# Altium footprint library 2440_LIB.PcbLib: 50 footprints (part 3 of 4)
Each footprint in its own frame and in the unit in brackets; x right, y up, seen from the top. Pads: shape width x height; smd on the part's side, far side on the other; paste and mask are expansions set on the pad; w line width, h text height; cw(c..) or ccw(c..) is an arc to the next point about the centre after c.
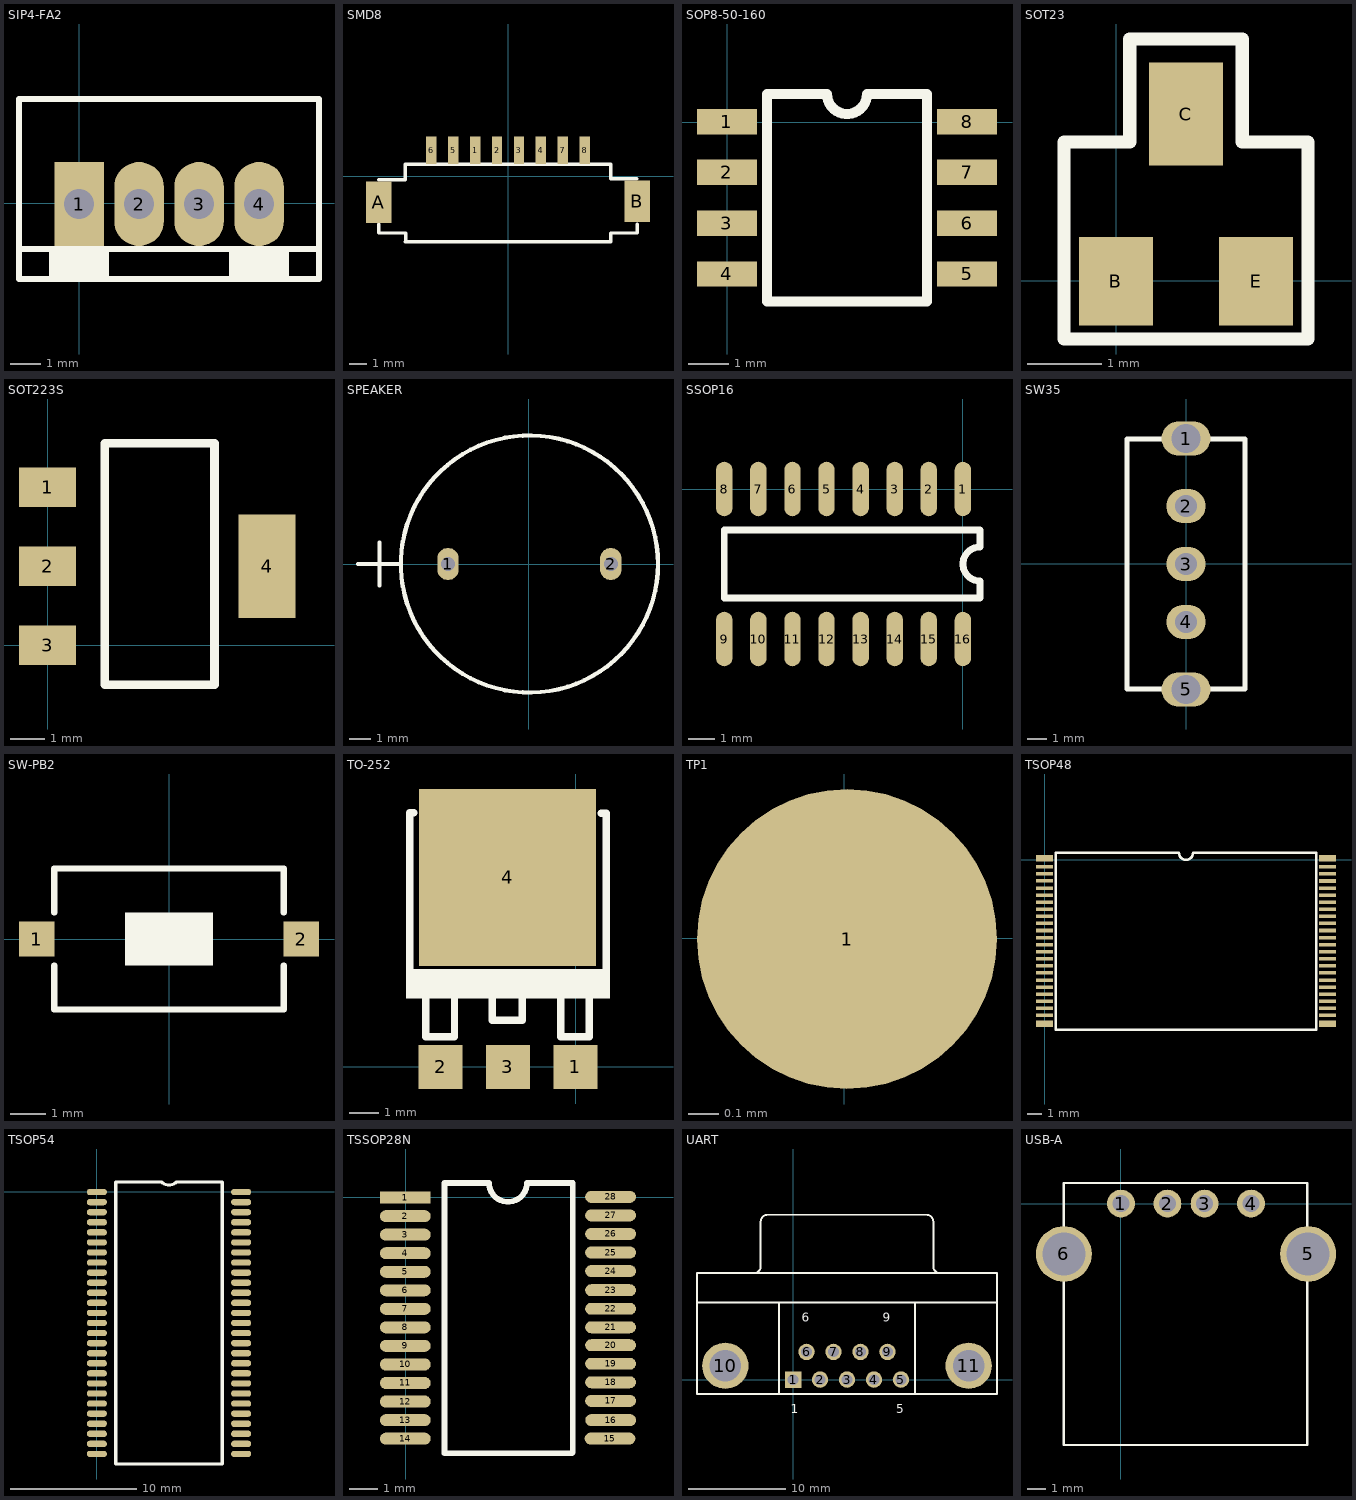
[diagram p2: the footprints below, top view; thin cyan lines are the x and y axes]

## SIP4-FA2 [mm]
pads (4):
  rect 1.651x2.8 hole 1: 1(-0.012,-0.02)
  oval 1.651x2.8 hole 1: 2(1.988,-0.02) 3(3.988,-0.02) 4(5.988,-0.02)
TopOverlay:
  region: 0.988,-1.52 -1.012,-1.52 -1.012,-2.52 0.988,-2.52
  region: 6.981,-1.52 4.981,-1.52 4.981,-2.52 6.981,-2.52
  lines w0.2: -2.012,-1.52 7.981,-1.52 ; -2.012,-2.52 7.981,-2.52 7.981,3.48 -2.012,3.48 -2.012,-2.52

## SMD8 [mm]
pads (10):
  rect 0.6x1.6 smd: 1(-1.914,1.51) 2(-0.644,1.51) 3(0.626,1.51) 4(1.896,1.51) 5(-3.184,1.51) 6(-4.454,1.51) 7(3.166,1.51) 8(4.436,1.51)
  rect 1.5x2.4 smd: A(-7.499,-1.515) B(7.481,-1.44)
TopOverlay:
  lines w0.2: -7.499,-2.79 -7.499,-3.29 -5.924,-3.29 -5.924,-3.79 ; -7.499,-0.215 -5.949,-0.215 -5.949,0.685 5.931,0.685 5.931,-0.14 7.456,-0.14 ; -5.949,-3.79 5.931,-3.79 5.931,-3.29 7.481,-3.29 7.481,-2.79

## SOP8-50-160 [mm]
pads (8):
  rect 1.5x0.635 smd: 1(-0.002,0.012) 2(-0.002,-1.258) 3(-0.002,-2.528) 4(-0.002,-3.798) 5(5.998,-3.798) 6(5.998,-2.528) 7(5.998,-1.258) 8(5.998,0.012)
TopOverlay:
  lines w0.254: 0.998,-4.488 0.998,0.702 2.498,0.702 ccw(c2.998,0.702) 3.498,0.702 4.998,0.702 4.998,-4.488 0.998,-4.488

## SOT23 [mm]
pads (3):
  rect 1x1.2 smd: B(-0.006,-0.008) E(1.894,-0.008)
  rect 1x1.4 smd: C(0.944,2.258)
TopOverlay:
  lines w0.178: -0.707,-0.79 -0.707,1.877 0.182,1.877 0.182,3.274 1.706,3.274 1.706,1.877 2.595,1.877 2.595,-0.79 -0.707,-0.79

## SOT223S [mil]
pads (4):
  rect 65x45 smd: 1(0,180) 2(0,90) 3(0,0)
  rect 65x118 smd: 4(250,90)
TopOverlay:
  lines w10: 65,-45 65,230 190,230 190,-45 65,-45

## SPEAKER [mm]
pads (2):
  oval 1x1.5 hole 0.65: 1(-3.779,0.01) 2(3.821,0.01)
TopOverlay:
  circle w0.2: c0.021,0.01 r6
  lines w0.2: -7.979,0.01 -5.979,0.01 ; -6.979,-0.99 -6.979,1.01

## SSOP16 [mil]
pads (16):
  oval 24x80 smd: 1(0.44,0.31) 2(-49.56,0.31) 3(-99.56,0.31) 4(-149.56,0.31) 5(-199.56,0.31) 6(-249.56,0.31) 7(-299.56,0.31) 8(-349.56,0.31) 9(-349.56,-219.69) 10(-299.56,-219.69) 11(-249.56,-219.69) 12(-199.56,-219.69) 13(-149.56,-219.69) 14(-99.56,-219.69) 15(-49.56,-219.69) 16(0.44,-219.69)
TopOverlay:
  lines w10: -349.56,-159.69 -349.56,-59.69 25.44,-59.69 25.44,-84.69 ccw(c25.44,-109.69) 25.44,-134.69 25.44,-159.69 -349.56,-159.69

## SW35 [mil]
pads (5):
  oval 100x70 hole 60: 1(-0.65,255.25) 5(-0.65,-256.57)
  oval 80x70 hole 45: 2(-0.65,117.45) 3(-0.65,-0.66) 4(-0.65,-118.77)
TopOverlay:
  lines w10: -120.65,-255.66 119.35,-255.66 119.35,254.34 -120.65,254.34 -120.65,-255.66

## SW-PB2 [mm]
pads (2):
  rect 1x1 smd: 1(-3.753,0.001) 2(3.747,0.001)
TopOverlay:
  rectangle: -1.253,-0.749 1.247,0.751
  lines w0.178: -3.253,-0.749 -3.253,-1.999 3.247,-1.999 3.247,-0.749 ; -3.253,0.751 -3.253,2.001 3.247,2.001 3.247,0.751

## TO-252 [mm]
pads (4):
  rect 1.5x1.5 smd: 1(-0.011,-0.009) 2(-4.583,-0.009) 3(-2.297,-0.009)
  rect 6x6 smd: 4(-2.311,6.416)
TopOverlay:
  rectangle: -5.759,2.315 1.166,3.315
  lines w0.254: -5.636,3.141 -5.636,8.616 ; -5.611,8.616 -5.486,8.616 ; -5.086,2.266 -5.086,1.016 -4.111,1.016 -4.111,2.291 ; -2.836,2.266 -2.836,1.566 -1.811,1.566 -1.811,2.366 ; -0.511,2.266 -0.511,1.016 0.464,1.016 ; 0.464,2.291 0.464,1.016 ; 0.864,8.591 1.014,8.591 ; 1.039,3.166 1.039,8.591 ; 0.464,1.016 0.464,1.016

## TP1 [mm]
pads (1):
  round 1 smd: 1(0.009,-0.003)

## TSOP48 [mm]
pads (48):
  rect 1.2x0.45 smd: 1(-0.012,0.103) 24(-0.012,-11.597) 25(19.988,-11.597) 48(19.988,0.103)
  rect 1.2x0.25 smd: 2(-0.012,-0.497) 3(-0.012,-0.997) 4(-0.012,-1.497) 5(-0.012,-1.997) 6(-0.012,-2.497) 7(-0.012,-2.997) 8(-0.012,-3.497) 9(-0.012,-3.997) 10(-0.012,-4.497) 11(-0.012,-4.997) 12(-0.012,-5.497) 13(-0.012,-5.997) 14(-0.012,-6.497) 15(-0.012,-6.997) 16(-0.012,-7.497) 17(-0.012,-7.997) 18(-0.012,-8.497) 19(-0.012,-8.997) 20(-0.012,-9.497) 21(-0.012,-9.997) 22(-0.012,-10.497) 23(-0.012,-10.997) 26(19.988,-10.997) 27(19.988,-10.497) 28(19.988,-9.997) 29(19.988,-9.497) 30(19.988,-8.997) 31(19.988,-8.497) 32(19.988,-7.997) 33(19.988,-7.497) 34(19.988,-6.997) 35(19.988,-6.497) 36(19.988,-5.997) 37(19.988,-5.497) 38(19.988,-4.997) 39(19.988,-4.497) 40(19.988,-3.997) 41(19.988,-3.497) 42(19.988,-2.997) 43(19.988,-2.497) 44(19.988,-1.997) 45(19.988,-1.497) 46(19.988,-0.997) 47(19.988,-0.497)
TopOverlay:
  lines w0.178: 0.788,-11.997 0.788,0.503 9.488,0.503 ccw(c9.988,0.503) 10.488,0.503 19.188,0.503 19.188,-11.997 0.788,-11.997

## TSOP54 [mm]
pads (54):
  oval 1.6x0.5 smd: 1(-0.006,-0.005) 2(-0.006,-0.805) 3(-0.006,-1.605) 4(-0.006,-2.405) 5(-0.006,-3.205) 6(-0.006,-4.005) 7(-0.006,-4.805) 8(-0.006,-5.605) 9(-0.006,-6.405) 10(-0.006,-7.205) 11(-0.006,-8.005) 12(-0.006,-8.805) 13(-0.006,-9.605) 14(-0.006,-10.405) 15(-0.006,-11.205) 16(-0.006,-12.005) 17(-0.006,-12.805) 18(-0.006,-13.605) 19(-0.006,-14.405) 20(-0.006,-15.205) 21(-0.006,-16.005) 22(-0.006,-16.805) 23(-0.006,-17.605) 24(-0.006,-18.405) 25(-0.006,-19.205) 26(-0.006,-20.005) 27(-0.006,-20.805) 28(11.454,-20.805) 29(11.454,-20.005) 30(11.454,-19.205) 31(11.454,-18.405) 32(11.454,-17.605) 33(11.454,-16.805) 34(11.454,-16.005) 35(11.454,-15.205) 36(11.454,-14.405) 37(11.454,-13.605) 38(11.454,-12.805) 39(11.454,-12.005) 40(11.454,-11.205) 41(11.454,-10.405) 42(11.454,-9.605) 43(11.454,-8.805) 44(11.454,-8.005) 45(11.454,-7.205) 46(11.454,-6.405) 47(11.454,-5.605) 48(11.454,-4.805) 49(11.454,-4.005) 50(11.454,-3.205) 51(11.454,-2.405) 52(11.454,-1.605) 53(11.454,-0.805) 54(11.454,-0.005)
TopOverlay:
  lines w0.254: 1.494,-21.605 9.954,-21.605 9.954,0.795 6.315,0.795 cw(c5.724,1.386) 5.133,0.795 1.494,0.795 1.494,-21.605

## TSSOP28N [mm]
pads (28):
  rect 1.78x0.42 smd: 1(-0.013,-0.007)
  oval 1.78x0.42 smd: 2(-0.013,-0.657) 3(-0.013,-1.307) 4(-0.013,-1.957) 5(-0.013,-2.607) 6(-0.013,-3.257) 7(-0.013,-3.907) 8(-0.013,-4.557) 9(-0.013,-5.207) 10(-0.013,-5.857) 11(-0.013,-6.507) 12(-0.013,-7.157) 13(-0.013,-7.807) 14(-0.013,-8.457) 15(7.162,-8.457) 16(7.187,-7.807) 17(7.183,-7.132) 18(7.183,-6.482) 19(7.183,-5.832) 20(7.183,-5.182) 21(7.183,-4.554) 22(7.183,-3.904) 23(7.183,-3.254) 24(7.183,-2.582) 25(7.183,-1.932) 26(7.183,-1.282) 27(7.183,-0.632) 28(7.183,0.018)
TopOverlay:
  lines w0.204: 5.826,-8.971 1.357,-8.971 1.357,0.507 2.923,0.507 ccw(c3.587,0.507) 4.252,0.507 5.857,0.507 5.857,-7.768 5.857,-8.94

## UART [mm]
pads (11):
  rect 1.69x1.69 hole 1.09: 1(0,0)
  round 1.69 hole 1.09: 2(2.77,0) 3(5.54,0) 4(8.31,0) 5(11.08,0) 6(1.385,2.84) 7(4.155,2.84) 8(6.925,2.84) 9(9.695,2.84)
  round 4.76 hole 3.26: 10(-6.955,1.42) 11(18.035,1.42)
TopOverlay:
  lines w0.2: -9.86,7.92 20.94,7.92 ; -4.02,10.925 ccw(c-4.02,11.62) -3.325,11.62 -3.325,16.22 ; -3.32,16.225 cw(c-2.625,16.225) -2.625,16.92 13.705,16.92 cw(c13.705,16.225) 14.4,16.225 ; -1.46,-1.48 -1.46,7.92 ; 12.54,-1.48 12.54,7.92 ; 14.405,16.22 14.405,11.62 ccw(c15.1,11.62) 15.1,10.925 ; -9.86,-1.48 -9.86,10.92 20.94,10.92 20.94,-1.48 -9.86,-1.48
  text "1" at -0.25,-3.455 h0.9
  text "5" at 10.58,-3.455 h0.9
  text "9" at 9.195,5.945 h0.9
  text "6" at 0.885,5.945 h0.9

## USB-A [mm]
pads (6):
  round 1.5 hole 0.92: 1(0.009,0.013) 2(2.509,0.013) 3(4.509,0.013) 4(7.009,0.013)
  round 3 hole 2.3: 5(10.079,-2.697) 6(-3.061,-2.697)
TopOverlay:
  lines w0.127: -3.061,-12.977 10.039,-12.977 10.039,1.123 -3.061,1.123 -3.061,-2.697 -3.061,-12.977